# Altium footprint library APSS Generic Components.PcbLib: 22 footprints (part 2 of 2)
Each footprint in its own frame and in the unit in brackets; x right, y up, seen from the top. Pads: shape width x height; smd on the part's side, far side on the other; paste and mask are expansions set on the pad; w line width, h text height; cw(c..) or ccw(c..) is an arc to the next point about the centre after c.
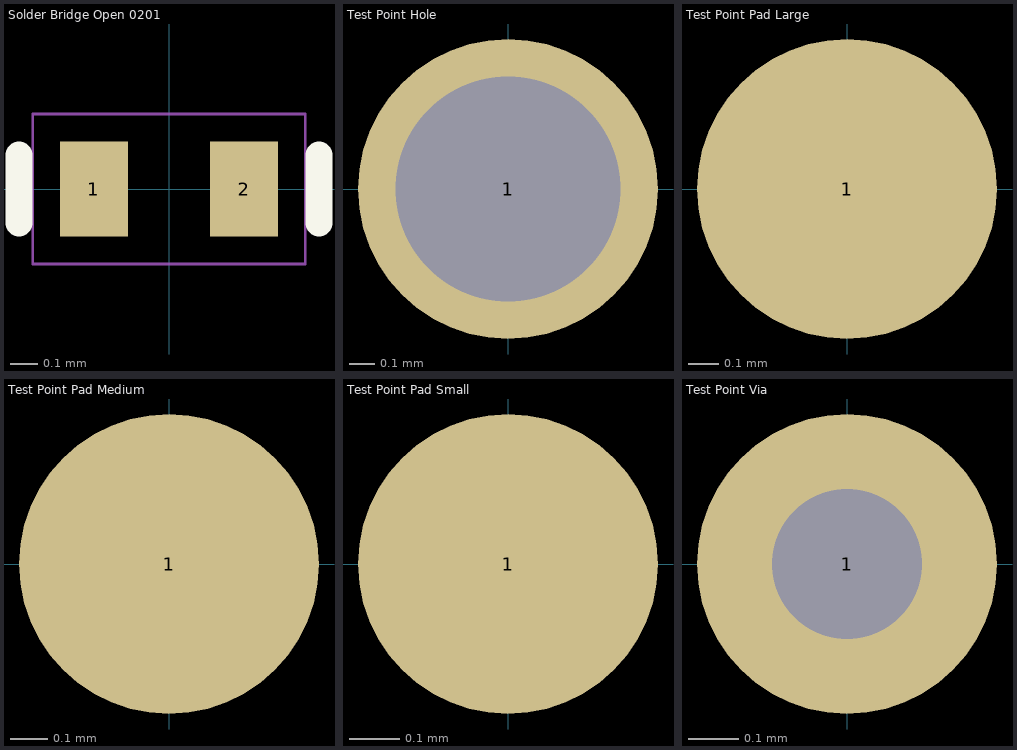
[diagram p1: the footprints below, top view; thin cyan lines are the x and y axes]

## Solder Bridge Open 0201 [mm]
pads (2):
  rect 0.25x0.35 smd paste-100 mask+0: 1(-0.275,0) 2(0.275,0)
Top Overlay:
  lines w0.1: -0.55,-0.125 -0.55,0.125 ; 0.55,-0.125 0.55,0.125
Top Solder:
  rectangle: -0.275,-0.175 0.275,0.175
Mechanical 13:
  lines w0.01: -0.5,-0.275 -0.5,0.275 0.5,0.275 0.5,-0.275 -0.5,-0.275

## Test Point Hole [mm] "A through-hole pad large enough to hold an oscilloscope probe tip unaided. Suitable for nets that are likely to be probed often, or probed simultaneously with other nets."
pads (1):
  round 1.2 hole 0.9 mask+0.051: 1(0,0)

## Test Point Pad Large [mm] "Exposed copper pad, 1mm dia. Very easy to probe."
pads (1):
  round 1 smd paste-10 mask+0.051: 1(0,0)

## Test Point Pad Medium [mm] "Exposed copper pad, 0.8mm dia."
pads (1):
  round 0.8 smd paste-10 mask+0.051: 1(0,0)

## Test Point Pad Small [mm] "Exposed copper pad, 0.6mm dia."
pads (1):
  round 0.6 smd paste-10 mask+0.051: 1(0,0)

## Test Point Via [mm] "A small via that can be probed by the tip of an oscilloscope probe. It is too small to fit a probe tip, so it must be manually held in place. Suitable for nets that are unlikely to be frequently probed."
pads (1):
  round 0.6 hole 0.3 mask+0.051: 1(0,0)